# EAGLE library part ACS711 (library Power Components)
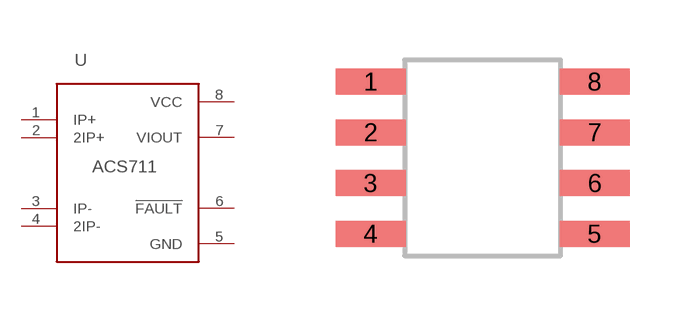
[diagram p1: symbol with the pads of SOIC8; footprint SOIC8]

Designator prefix U

## ACS711  [SOIC8]
1  IP+
2  2IP+
3  IP-
4  2IP-
5  GND
6  !FAULT
7  VIOUT
8  VCC

## Footprint SOIC8 (pad centres in mm)
smd 1.75 x 0.65: 1 -2.8,1.905; 2 -2.8,0.635; 3 -2.8,-0.635; 4 -2.8,-1.905; 5 2.8,-1.905; 6 2.8,-0.635; 7 2.8,0.635; 8 2.8,1.905